# EAGLE library part EDGE-2 (library dec-con)
Double-Sided DEC edge connector.
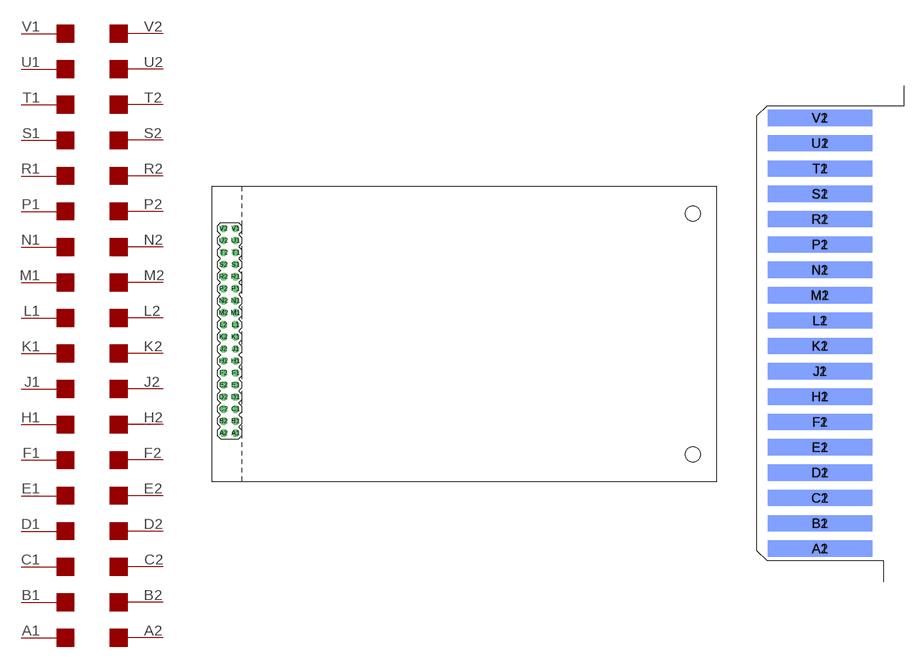
[diagram p1: symbol with the pads of ECONOSINGLE; footprints ECONOSINGLE, EDGE-CON2]

Designator prefix EDGE; gates L2=EDGE-RIGHT M2=EDGE-RIGHT N2=EDGE-RIGHT P2=EDGE-RIGHT R2=EDGE-RIGHT S2=EDGE-RIGHT T2=EDGE-RIGHT K2=EDGE-RIGHT J2=EDGE-RIGHT H2=EDGE-RIGHT F2=EDGE-RIGHT E2=EDGE-RIGHT D2=EDGE-RIGHT C2=EDGE-RIGHT U2=EDGE-RIGHT V2=EDGE-RIGHT B2=EDGE-RIGHT A2=EDGE-RIGHT K1=EDGE-LEFT L1=EDGE-LEFT M1=EDGE-LEFT N1=EDGE-LEFT P1=EDGE-LEFT R1=EDGE-LEFT S1=EDGE-LEFT T1=EDGE-LEFT U1=EDGE-LEFT V1=EDGE-LEFT J1=EDGE-LEFT H1=EDGE-LEFT F1=EDGE-LEFT E1=EDGE-LEFT D1=EDGE-LEFT C1=EDGE-LEFT B1=EDGE-LEFT A1=EDGE-LEFT

## EDGE-2ECONO  [ECONOSINGLE]
A1  A1:1
A2  A2:1
B1  B1:1
B2  B2:1
C1  C1:1
C2  C2:1
D1  D1:1
D2  D2:1
E1  E1:1
E2  E2:1
F1  F1:1
F2  F2:1
H1  H1:1
H2  H2:1
J1  J1:1
J2  J2:1
K1  K1:1
K2  K2:1
L1  L1:1
L2  L2:1
M1  M1:1
M2  M2:1
N1  N1:1
N2  N2:1
P1  P1:1
P2  P2:1
R1  R1:1
R2  R2:1
S1  S1:1
S2  S2:1
T1  T1:1
T2  T2:1
U1  U1:1
U2  U2:1
V1  V1:1
V2  V2:1

## EDGE-2CONNECTOR  [EDGE-CON2]
Pads as for ECONOSINGLE

## Footprint ECONOSINGLE (pad centres in mm)
Economy version of single-height flip chip without gold plated edge connector.
drill 1.016 octagon: A1 5.08,10.16; A2 2.54,10.16; B1 5.08,12.7; B2 2.54,12.7; C1 5.08,15.24; C2 2.54,15.24; D1 5.08,17.78; D2 2.54,17.78; E1 5.08,20.32; E2 2.54,20.32; F1 5.08,22.86; F2 2.54,22.86; H1 5.08,25.4; H2 2.54,25.4; J1 5.08,27.94; J2 2.54,27.94; K1 5.08,30.48; K2 2.54,30.48; L1 5.08,33.02; L2 2.54,33.02; M1 5.08,35.56; M2 2.54,35.56; N1 5.08,38.1; N2 2.54,38.1; P1 5.08,40.64; P2 2.54,40.64; R1 5.08,43.18; R2 2.54,43.18; S1 5.08,45.72; S2 2.54,45.72; T1 5.08,48.26; T2 2.54,48.26; U1 5.08,50.8; U2 2.54,50.8; V1 5.08,53.34; V2 2.54,53.34
hole 3.175 at 101.6,56.515
hole 3.175 at 101.6,5.715

## Footprint EDGE-CON2 (pad centres in mm)
Single-Height DEC edge connector
smd 13.106 x 2.032: A1 7.938,4.128; B1 7.938,7.303; C1 7.938,10.477; D1 7.938,13.652; E1 7.938,16.828; F1 7.938,20.003; H1 7.938,23.177; J1 7.938,26.352; K1 7.938,29.527; L1 7.938,32.703; M1 7.938,35.877; N1 7.938,39.053; P1 7.938,42.227; R1 7.938,45.403; S1 7.938,48.578; T1 7.938,51.752; U1 7.938,54.928; V1 7.938,58.102
smd 13.106 x 2.032 bottom: A2 7.938,4.128; B2 7.938,7.303; C2 7.938,10.477; D2 7.938,13.652; E2 7.938,16.828; F2 7.938,20.003; H2 7.938,23.177; J2 7.938,26.352; K2 7.938,29.527; L2 7.938,32.703; M2 7.938,35.877; N2 7.938,39.053; P2 7.938,42.227; R2 7.938,45.403; S2 7.938,48.578; T2 7.938,51.752; U2 7.938,54.928; V2 7.938,58.102